# Altium integrated library Linear Technology Power Management Switching Regulator LTC1174-LTC3901.IntLib: 2647 symbols (part 55 of 364)
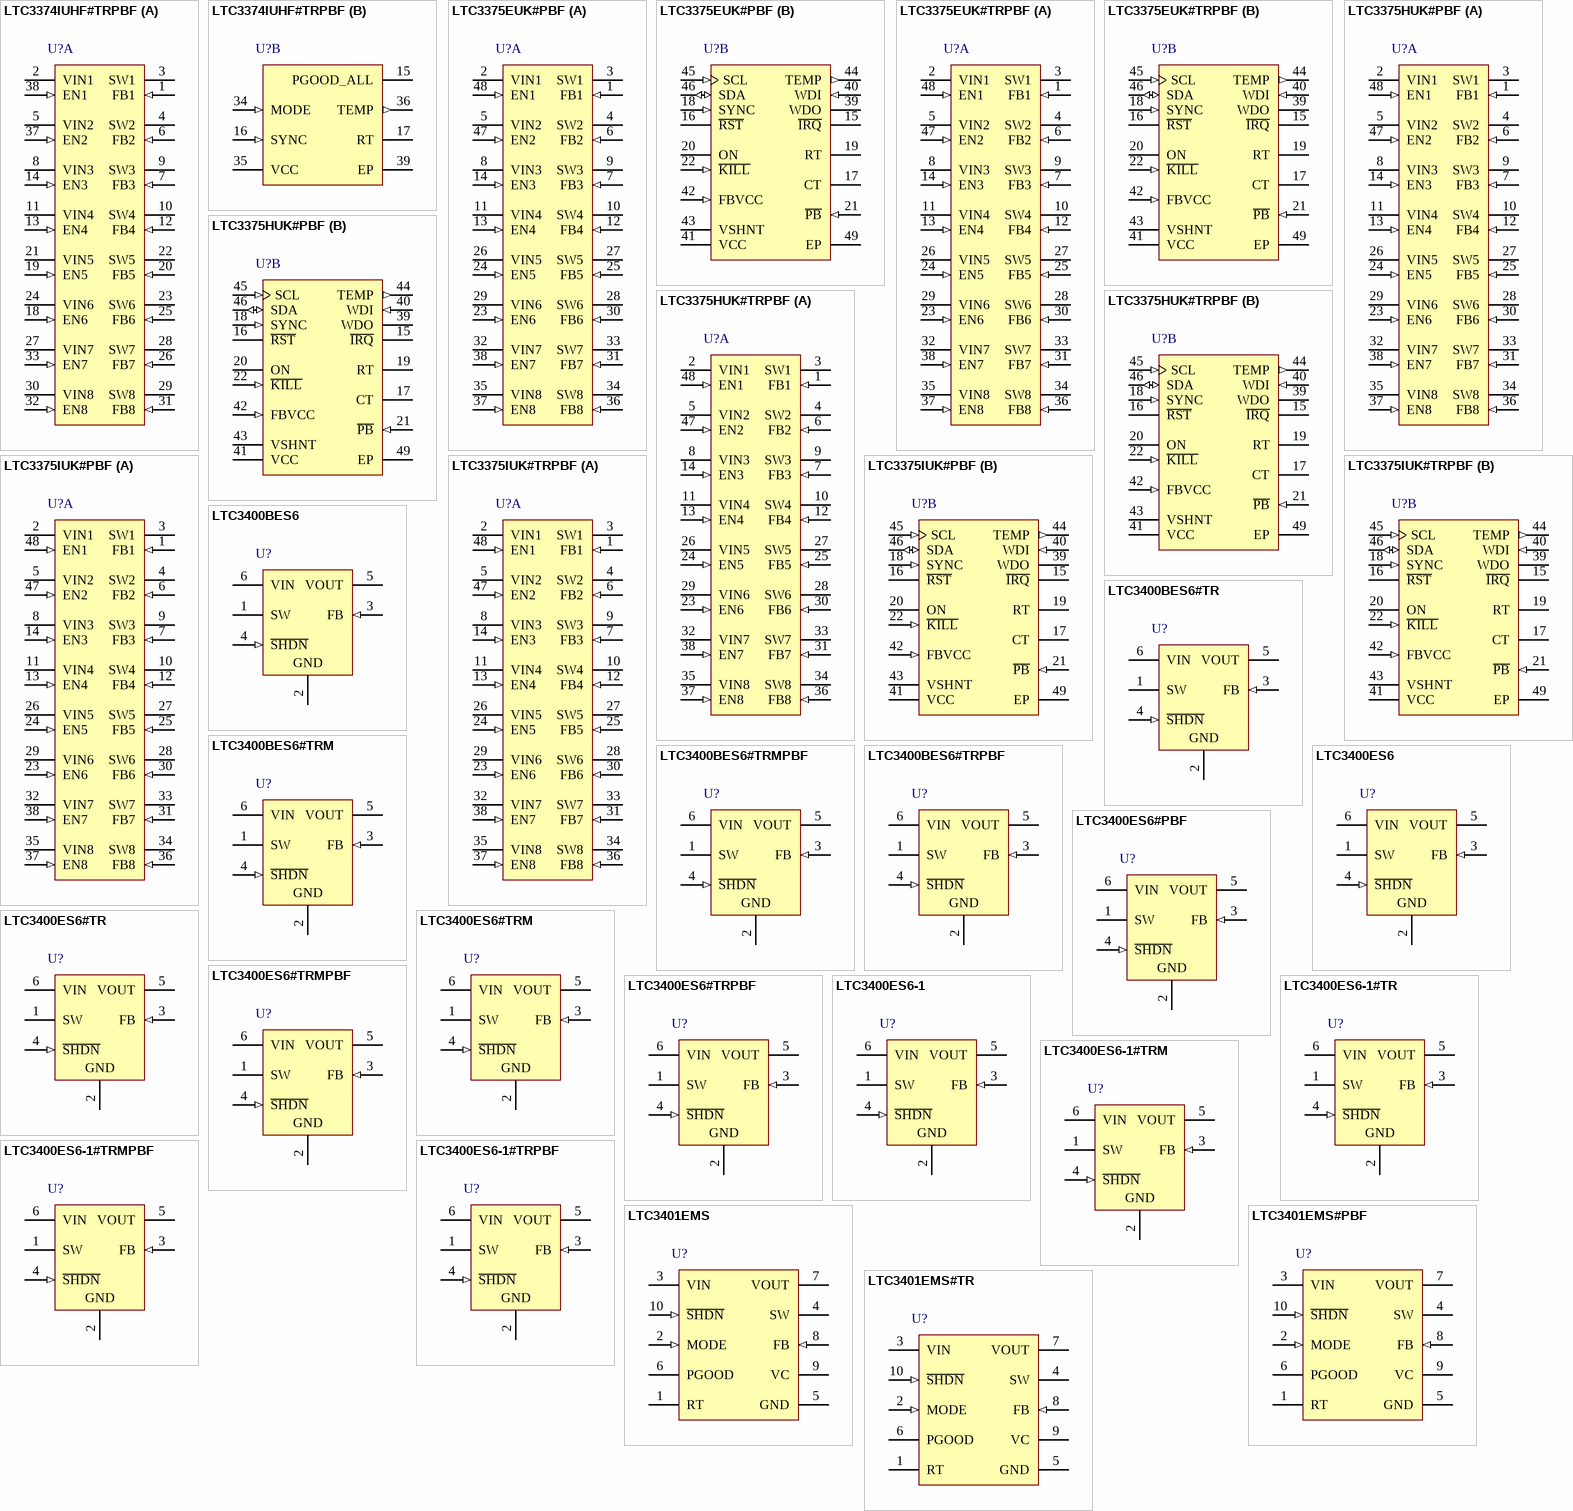
[diagram p243: symbols LTC3374IUHF#TRPBF to LTC3401EMS#TR]

## LTC3375HUK#PBF
designator U?
8-Channel Programmable, Parallelable 1 A Buck Regulator, 48-pin QFN (UK-48), -40 to 150 degC, Pb-Free; Manufacturer: Linear Technology; PartNumber: LTC3375HUK#PBF; Frequency Sync Range: 1MHz - 3MHz; Number of Outputs: 8; DatasheetVersion: Rev. A; PackageVersion: Rev. C, 06/2010; PackageReference: UK-48; PackageDescription: 48-Pin Plastic QFN, Body 7 x 7 mm, Pitch 0.5 mm; Supplier 1: Digi-Key; Supplier Part Number 1: LTC3375HUK#PBF-ND; Supplier 2: Farnell; Supplier Part Number 2: 2313447; Supplier 3: Farnell; Supplier Part Number 3: 2299733; Supplier 4: Newark; Supplier Part Number 4: 64W5958; RoHS: TRUE; Mounting Technology: Surface Mount; Code_JEDEC: MO-220; ComponentLink1Description: Manufacturer URL; ComponentLink1URL: http://www.linear.com/; ComponentLink2Description: Datasheet; ComponentLink2URL: http://cds.linear.com/docs/en/datasheet/3375fa.pdf; ComponentLink3Description: Package Specification; ComponentLink3URL: http://cds.linear.com/docs/en/packaging/QFN_48_05-08-1704.pdf
footprint LT-UK-48_N (QFN, 48-Leads, Body 7.1x7.1mm, Pitch 0.5mm, Thermal Pad 5.15x5.15mm, IPC Medium Density)
footprint LT-UK-48_L (QFN, 48-Leads, Body 7.1x7.1mm, Pitch 0.5mm, Thermal Pad 5.15x5.15mm, IPC High Density)
footprint LT-UK-48_M (QFN, 48-Leads, Body 7.1x7.1mm, Pitch 0.5mm, Thermal Pad 5.15x5.15mm, IPC Low Density)
part A pins: 1 FB1 (in) "Buck Regulator 1 Feedback Pin. Receives feedback by a resistor divider connected across the output.", 2 VIN1 (power) "Buck Regulator 1 Input Supply. Bypass to GND with a 10uF or larger ceramic capacitor.", 3 SW1 (power) "Buck Regulator 1 Switch Node. External inductor connects to this pin.", 4 SW2 (power) "Buck Regulator 2 Switch Node. External inductor connects to this pin.", 5 VIN2 (power) "Buck Regulator 2 Input Supply. Bypass to GND with a 10uF or larger ceramic capacitor. May be driven by an independent supply or must be shorted to VIN1 when buck regulator 2 is combined with buck regulator 1 for higher (See Datasheet)", 6 FB2 (in) "Buck Regulator 2 Feedback Pin. Receives feedback by a resistor divider connected across the output. Connecting FB2 to VIN2 combines buck regulator 2 with buck regulator 1 for higher current. Up to 4 converters may be (See Datasheet)", 7 FB3 (in) "Buck Regulator 3 Feedback Pin. Receives feedback by a resistor divider connected across the output. Connecting FB3 to VIN3 combines buck regulator 3 with buck regulator 2 for higher current. Up to 4 converters may be (See Datasheet)", 8 VIN3 (power) "Buck Regulator 3 Input Supply. Bypass to GND with a 10uF or larger ceramic capacitor. May be driven by an independent supply or must be shorted to VIN2 when buck regulator 3 is combined with buck regulator 2 for higher (See Datasheet)", 9 SW3 (power) "Buck Regulator 3 Switch Node. External inductor connects to this pin.", 10 SW4 (power) "Buck Regulator 4 Switch Node. External inductor connects to this pin.", 11 VIN4 (power) "Buck Regulator 4 Input Supply. Bypass to GND with a 10uF or larger ceramic capacitor. May be driven by an independent supply or must be shorted to VIN3 when buck regulator 4 is combined with buck regulator 3 for higher (See Datasheet)", 12 FB4 (in) "Buck Regulator 4 Feedback Pin. Receives feedback by a resistor divider connected across the output. Connecting FB4 to VIN4 combines buck regulator 4 with buck regulator 3 for higher current. Up to 4 converters may be (See Datasheet)", 13 EN4 (in) "Buck Regulator 4 Enable Input. Active high.", 14 EN3 (in) "Buck Regulator 3 Enable Input. Active high.", 23 EN6 (in) "Buck Regulator 6 Enable Input. Active high.", 24 EN5 (in) "Buck Regulator 5 Enable Input. Active high.", 25 FB5 (in) "Buck Regulator 5 Feedback Pin. Receives feedback by a resistor divider connected across the output. Connecting FB5 to VIN5 combines buck regulator 5 with buck regulator 4 for higher current. Up to 4 converters may be (See Datasheet)", 26 VIN5 (power) "Buck Regulator 5 Input Supply. Bypass to GND with a 10uF or larger ceramic capacitor. May be driven by an independent supply or must be shorted to VIN4 when buck regulator 5 is combined with buck regulator 4 for higher (See Datasheet)", 27 SW5 (power) "Buck Regulator 5 Switch Node. External inductor connects to this pin.", 28 SW6 (power) "Buck Regulator 6 Switch Node. External inductor connects to this pin.", 29 VIN6 (power) "Buck Regulator 6 Input Supply. Bypass to GND with a 10uF or larger ceramic capacitor. May be driven by an independent supply or must be shorted to VIN5 when buck regulator 6 is combined with buck regulator 5 for higher (See Datasheet)", 30 FB6 (in) "Buck Regulator 6 Feedback Pin. Receives feedback by a resistor divider connected across the output. Connecting FB6 to VIN6 combines buck regulator 6 with buck regulator 5 for higher current. Up to 4 converters may be (See Datasheet)", 31 FB7 (in) "Buck Regulator 7 Feedback Pin. Receives feedback by a resistor divider connected across the output. Connecting FB7 to VIN7 combines buck regulator 7 with buck regulator 6 for higher current. Up to 4 converters may be (See Datasheet)", 32 VIN7 (power) "Buck Regulator 7 Input Supply. Bypass to GND with a 10uF or larger ceramic capacitor. May be driven by an independent supply or must be shorted to VIN6 when buck regulator 7 is combined with buck regulator 6 for higher (See Datasheet)", 33 SW7 (power) "Buck Regulator 7 Switch Node. External inductor connects to this pin.", 34 SW8 (power) "Buck Regulator 8 Switch Node. External inductor connects to this pin.", 35 VIN8 (power) "Buck Regulator 8 Input Supply. Bypass to GND with a 10uF or larger ceramic capacitor. May be driven by an independent supply or must be shorted to VIN7 when buck regulator 8 is combined with buck regulator 7 for higher (See Datasheet)", 36 FB8 (in) "Buck Regulator 8 Feedback Pin. Receives feedback by a resistor divider connected across the output. Connecting FB8 to VIN8 combines buck regulator 8 with buck regulator 7 for higher current. Up to 4 converters may be (See Datasheet)", 37 EN8 (in) "Buck Regulator 8 Enable Input. Active high.", 38 EN7 (in) "Buck Regulator 7 Enable Input. Active high.", 47 EN2 (in) "Buck Regulator 2 Enable Input. Active high.", 48 EN1 (in) "Buck Regulator 1 Enable Input. Active high."
part B pins: 15 ~{IRQ} (oc) "Interrupt Pin (Active Low). Open-drain output. When an undervoltage, die temperature, or unmasked error condition is detected, this pin is driven LOW.", 16 ~{RST} (oc) "Reset Pin (Active Low). Open-drain output. When the regulated output voltage of any unmasked enabled switching regulator is more than 7.5% below its programmed level, this pin is driven LOW. Assertion delay is scaled by the (See Datasheet)", 17 CT "Timing Capacitor Pin. A capacitor connected to GND sets a time constant which is scaled for use by the ON, K\I\L\L\, P\B\, R\S\T\ and I\R\Q\ pins.", 18 SYNC (in) "Oscillator Synchronization Pin. Driving SYNC with an external clock signal will synchronize all switchers to the applied frequency. The slope compensation is automatically adapted to the external clock frequency. The absence (See Datasheet)", 19 RT "Oscillator Frequency Pin. This pin provides two modes of setting the switching frequency. Connecting a resistor from RT to ground will set the switching frequency based on the resistor value. If RT is tied to VCC the default (See Datasheet)", 20 ON (oc) "Open-Drain Output. When the P\B\ pin is pressed and released, the signal is debounced and the ON signal is held HIGH for a minimum time period that is scaled by the CT capacitor. ON is forced low if: a) K\I\L\L\ is not (See Datasheet)", 21 ~{PB} (in) "Pushbutton Input. Active low. P\B\ is internally pulled to VCC through a 420k (typical) resistor.", 22 ~{KILL} (in) "Kill Input Pin. Forcing K\I\L\L\ low releases the ON output which in turn is forced low. While K\I\L\L\ is low, the buck converters will be forced to power down and will remain powered down for 1 second (scaled by the CT (See Datasheet)", 39 WDO (oc) "Watchdog Timer Output. Open-drain output. WDO is pulled low for 200ms during a watchdog timer failure.", 40 WDI (in) "Watchdog Timer Input. The WDI pin must be toggled either low to high or high to low every 1.5 seconds. Failure to toggle WDI results in the WDO pin being pulled low for 200ms.", 41 VCC (power) "Always-On LDO Output Voltage/Internal Bias Supply. When used as a regulator, VCC should be connected to the emitter/source of the external LDO NPN/ NFET transistor. VCC serves as a low voltage rail that may be used to (See Datasheet)", 42 FBVCC (in) "Always-On LDO Feedback Pin. Receives feedback by a resistor divider connected across VCC.", 43 VSHNT (power) "Shunt Regulator Base Control Voltage. VSHNT should be connected to the base/gate of an external high voltage NPN/NFET transistor and to its collector/drain through a resistor.", 44 TEMP (out) "Temperature Indication Pin. TEMP outputs a voltage of 150mV (typical) at room temperature. The TEMP voltage will change by 6.75mV/degreesC (typical) giving an external indication of the LTC3375 internal die temperature.", 45 SCL (in) "Serial Clock Line for I2C Port.", 46 SDA (io) "Serial Data Line for I2C Port. Open-drain output during read back.", 49 EP (power) "Ground. The exposed pad must be connected to a continuous ground plane on the printed circuit board directly under the LTC3375 for electrical contact and rated thermal performance."